# Altium schematic symbol library SCH - ADC - ANALOG AD4001BRMZ.SCHLIB: 1 symbol
Pins are listed as number, name and electrical type; pins without a type are passive.

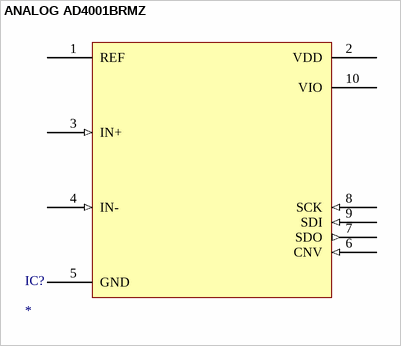
[diagram p0: symbol ANALOG AD4001BRMZ]

## ANALOG AD4001BRMZ
designator IC?
pins: 1 REF (power), 2 VDD (power), 3 IN+ (in), 4 IN- (in), 5 GND (power), 6 CNV (in), 7 SDO (out), 8 SCK (in), 9 SDI (in), 10 VIO (power)